# Altium footprint library PMIC - Voltage Regulators - Linear.PcbLib: 3 footprints
Each footprint in its own frame and in the unit in brackets; x right, y up, seen from the top. Pads: shape width x height; smd on the part's side, far side on the other; paste and mask are expansions set on the pad; w line width, h text height; cw(c..) or ccw(c..) is an arc to the next point about the centre after c.
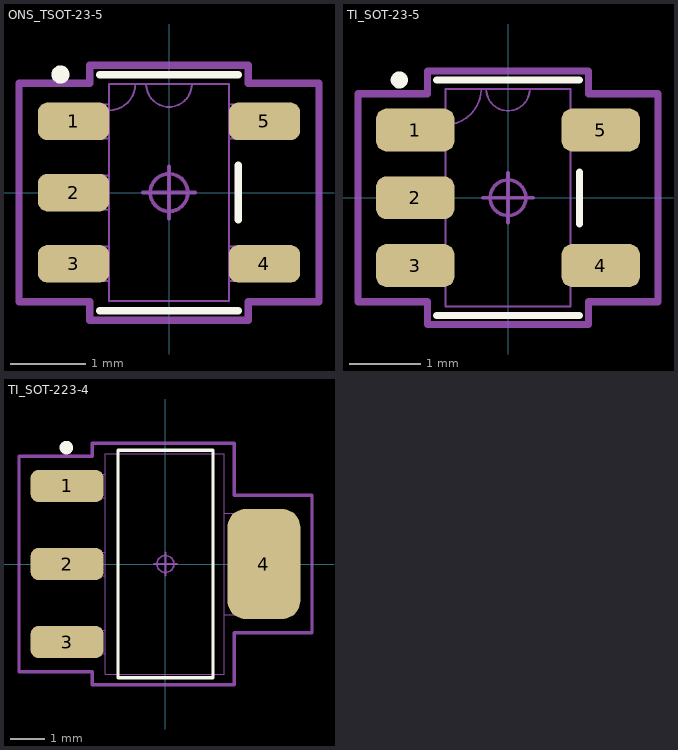
[diagram p0: the footprints below, top view; thin cyan lines are the x and y axes]

## ONS_TSOT-23-5 [mm]
pads (5):
  rrect50% 0.95x0.5 smd paste+0 mask+0.04: 1(-1.274,0.95) 2(-1.274,0) 3(-1.274,-0.95) 4(1.274,-0.95) 5(1.274,0.95)
Top Overlay:
  circle w0.12: c-1.448,1.575 r0.06
  lines w0.1: -0.927,-1.575 0.927,-1.575 ; -0.927,1.575 0.927,1.575 ; 0.927,-0.364 0.927,0.364
Mechanical 13:
  lines w0.025: -0.8,1.098 ccw(c-0.8,1.448) -0.45,1.448 ; -0.305,1.448 ccw(c0,1.448) 0.305,1.448 ; -1.397,-1.179 -0.8,-1.179 -0.8,-0.721 -1.397,-0.721 -1.397,-1.179 ; -1.397,-0.229 -0.8,-0.229 -0.8,0.229 -1.397,0.229 -1.397,-0.229 ; -1.397,0.721 -0.8,0.721 -0.8,1.179 -1.397,1.179 -1.397,0.721 ; -0.8,-1.448 -0.8,1.448 0.8,1.448 0.8,-1.448 -0.8,-1.448 ; 0.8,-1.179 1.397,-1.179 1.397,-0.721 0.8,-0.721 0.8,-1.179 ; 0.8,0.721 1.397,0.721 1.397,1.179 0.8,1.179 0.8,0.721
Mechanical 15:
  circle w0.05: c0,0 r0.25
  lines w0.05: -0.35,0 0.35,0 ; 0,-0.35 0,0.35
  lines w0.1: -2.001,-1.458 -1.054,-1.458 -1.054,-1.702 1.054,-1.702 1.054,-1.458 2.001,-1.458 2.001,1.458 1.054,1.458 1.054,1.702 -1.054,1.702 -1.054,1.458 -2.001,1.458 -2.001,-1.458
3D body "TSOT23-5_ONS.step": height 0.99, standoff 0, extent -1.397,-1.448 1.397,1.448

## TI_SOT-23-5 [mm]
pads (5):
  rrect50% 1.1x0.6 smd paste+0 mask+0.04: 1(-1.3,0.95) 2(-1.3,0) 3(-1.3,-0.95) 4(1.3,-0.95) 5(1.3,0.95)
Top Overlay:
  circle w0.12: c-1.524,1.651 r0.06
  lines w0.1: -1.003,-1.651 1.003,-1.651 ; -1.003,1.651 1.003,1.651 ; 1.003,-0.363 1.003,0.363
Mechanical 13:
  lines w0.025: -0.876,1.024 ccw(c-0.876,1.524) -0.376,1.524 ; -0.305,1.524 ccw(c0,1.524) 0.305,1.524 ; -1.499,-1.204 -0.876,-1.204 -0.876,-0.696 -1.499,-0.696 -1.499,-1.204 ; -1.499,-0.254 -0.876,-0.254 -0.876,0.254 -1.499,0.254 -1.499,-0.254 ; -1.499,0.696 -0.876,0.696 -0.876,1.204 -1.499,1.204 -1.499,0.696 ; -0.876,-1.524 -0.876,1.524 0.876,1.524 0.876,-1.524 -0.876,-1.524 ; 0.876,-1.204 1.499,-1.204 1.499,-0.696 0.876,-0.696 0.876,-1.204 ; 0.876,0.696 1.499,0.696 1.499,1.204 0.876,1.204 0.876,0.696
Mechanical 15:
  circle w0.05: c0,0 r0.25
  lines w0.05: -0.35,0 0.35,0 ; 0,-0.35 0,0.35
  lines w0.1: -2.103,-1.458 -2.103,1.458 -1.13,1.458 -1.13,1.778 1.13,1.778 1.13,1.458 2.103,1.458 2.103,-1.458 1.13,-1.458 1.13,-1.778 -1.13,-1.778 -1.13,-1.458 -2.103,-1.458
3D body "DBV0005A.stp": height 1.2, standoff 0, extent -1.4,-1.45 1.4,1.45

## TI_SOT-223-4 [mm]
pads (4):
  rrect50% 2.15x0.95 smd mask+0.04: 1(-2.9,2.3) 2(-2.9,0) 3(-2.9,-2.3)
  rrect50% 2.15x3.25 smd mask+0.04: 4(2.9,0)
Top Overlay:
  circle w0.2: c-2.921,3.429 r0.1
  lines w0.1: -1.4,-3.35 -1.4,3.35 1.4,3.35 1.4,-3.35 -1.4,-3.35
Mechanical 13:
  lines w0.025: -1.775,-2.65 -2.003,-2.65 -2.374,-2.65 -2.612,-2.65 -2.797,-2.65 -3.525,-2.65 -3.525,-1.95 -2.797,-1.95 -2.612,-1.95 -2.374,-1.95 -2.003,-1.95 -1.775,-1.95 ; -1.775,-0.35 -2.003,-0.35 -2.374,-0.35 -2.612,-0.35 -2.797,-0.35 -3.525,-0.35 -3.525,0.35 -2.797,0.35 -2.612,0.35 -2.374,0.35 -2.003,0.35 -1.775,0.35 ; -1.775,1.95 -2.003,1.95 -2.374,1.95 -2.612,1.95 -2.797,1.95 -3.525,1.95 -3.525,2.65 -2.797,2.65 -2.612,2.65 -2.374,2.65 -2.003,2.65 -1.775,2.65 ; 1.725,-1.5 1.953,-1.5 2.324,-1.5 2.562,-1.5 2.747,-1.5 3.475,-1.5 3.475,1.5 2.747,1.5 2.562,1.5 2.324,1.5 1.953,1.5 1.725,1.5 ; -1.775,-3.25 1.725,-3.25 1.725,3.25 -1.775,3.25 -1.775,-3.25
Mechanical 15:
  circle w0.05: c0,0 r0.25
  lines w0.05: -0.35,0 0.35,0 ; 0,-0.35 0,0.35
  lines w0.1: -4.318,-3.175 -4.318,3.175 -2.159,3.175 -2.159,3.556 2.032,3.556 2.032,2.032 4.318,2.032 4.318,-2.032 2.032,-2.032 2.032,-3.556 -2.159,-3.556 -2.159,-3.175 -4.318,-3.175
3D body "DCY0004A.stp": height 1.68, standoff 0, extent -3.5,-3.25 3.5,3.25